# Altium schematic symbol library C1608X6S1C475K080AC.SchLib: 1 symbol
Pins are listed as number, name and electrical type; pins without a type are passive.

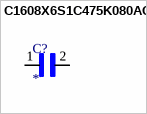
[diagram p0: symbol C1608X6S1C475K080AC]

## C1608X6S1C475K080AC
designator C?
Cap Ceramic 4.7uF 16V X6S 10% SMD 0603 105Â°C Punched Paper T/R; MP: C1608X6S1C475K080AC; MF: {'manufacturer': u'TDK'}; Price: None; Availability: Unavailable; Value: *; Package: None
footprint CAPC1608X90N
pins: 1, 2